# Altium schematic symbol library Led White HL-AM-2835H489W-S1-08HL-HR3.Schlib: 1 symbol
Pins are listed as number, name and electrical type; pins without a type are passive.

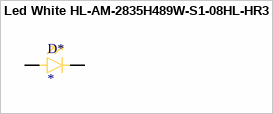
[diagram p0: symbol Led White HL-AM-2835H489W-S1-08HL-HR3]

## Led White HL-AM-2835H489W-S1-08HL-HR3
designator D*
White - 2.8V~3.4V 2800K~3100K SMD,3.5x2.8x0.7mm Light Emitting Diodes (LED) ROHS; ComponentLink1Description: LCSC - HL-AM-2835H489W-S1-08HL-HR3; ComponentLink1URL: https://lcsc.com/product-detail/Light-Emitting-Diodes-LED_HONGLITRONIC-Hongli-Zhihui-HONGLITRONIC-HL-AM-2835H489W-S1-08HL-HR3_C210310.html; JLCPCB Part Type: Extended; LCSC Part #: C210310
footprint HL-AM-2835H489W-S1-08HL-HR3
pins: 1, 2